# Altium schematic symbol library kmilo17pet-NSC_Interface.SchLib: 1433 symbols (part 11 of 51)
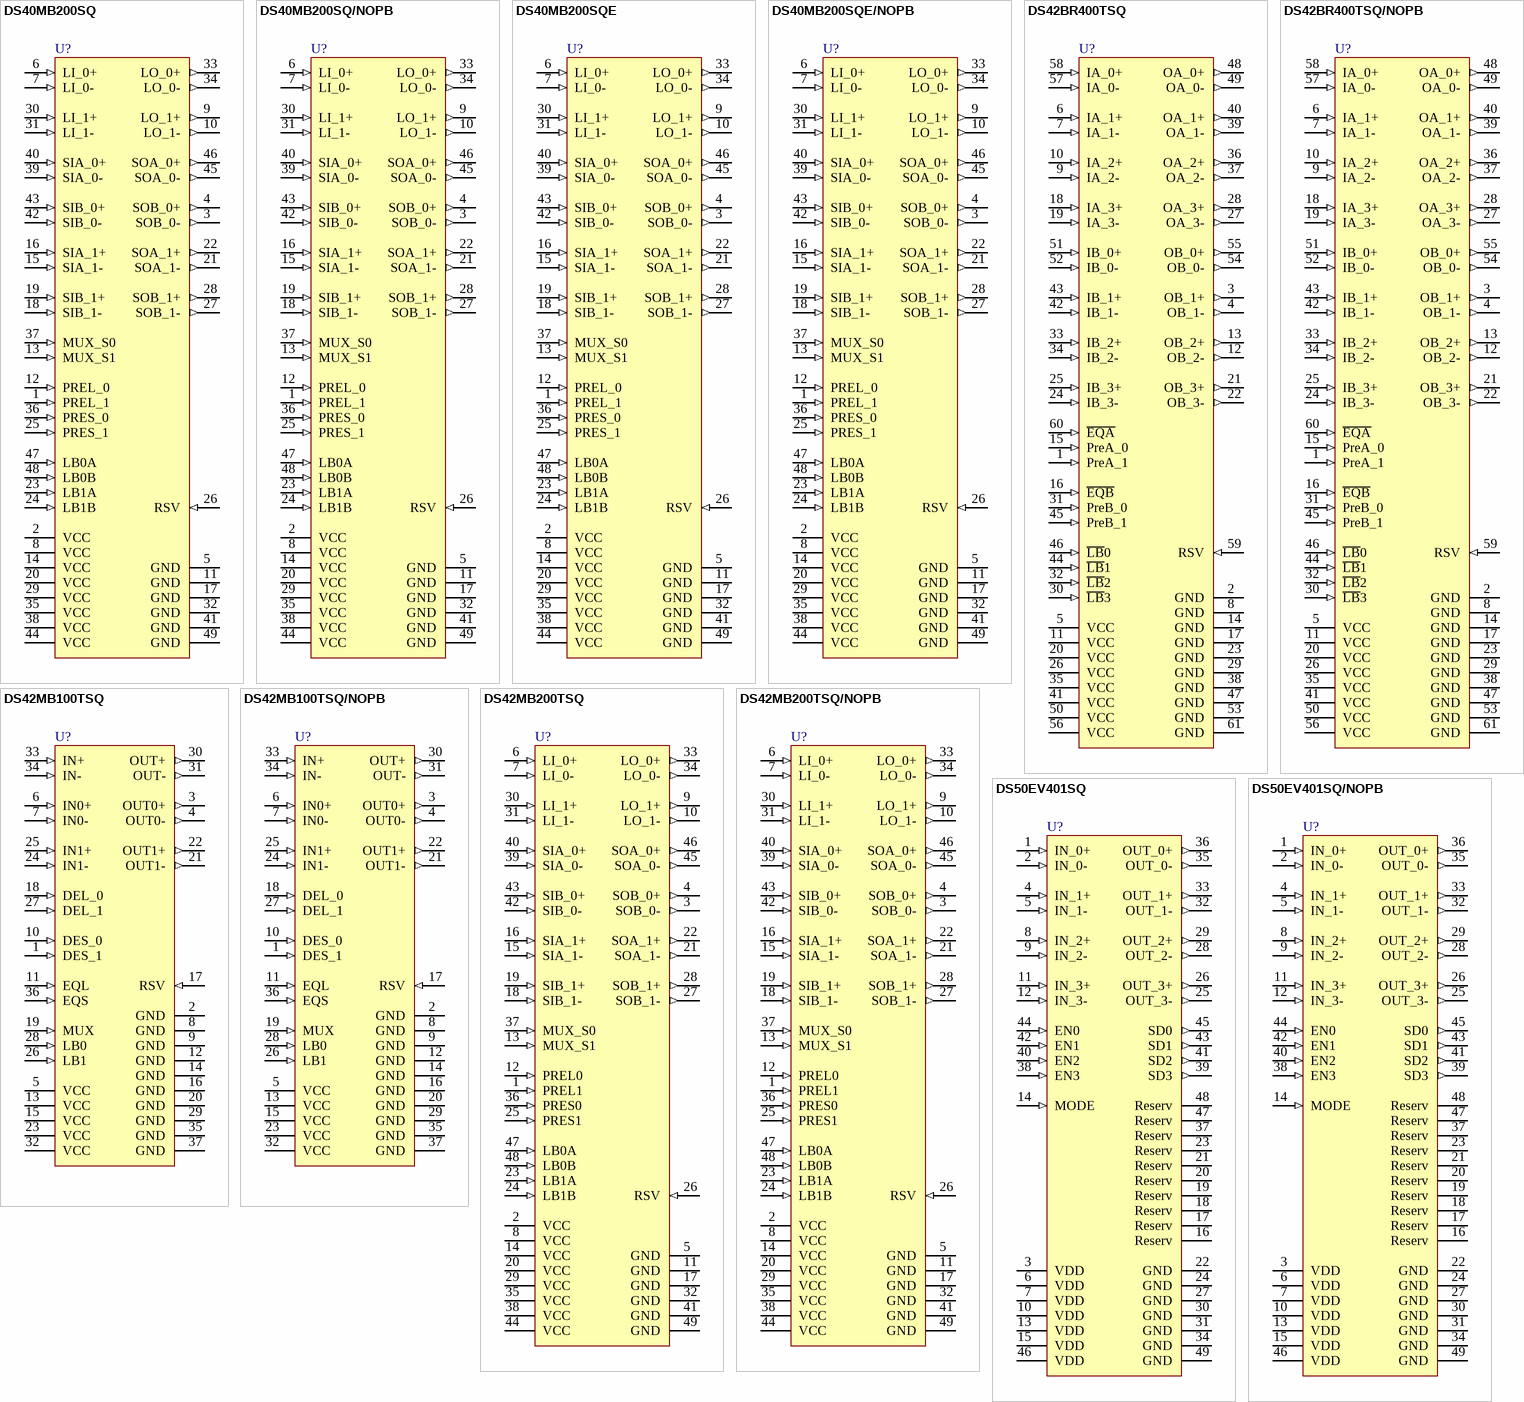
[diagram p134: symbols DS40MB200SQ to DS50EV401SQ/NOPB]

## DS42MB100TSQ
designator U?
4.25 Gbps 2:1/1:2 CML Mux/Buffer with Transmit De-Emphasis and Receive Equalization, 36-pin LLP; PartNumber: DS42MB100TSQ; Manufacturer: National Semiconductor; PackageTopMarking: NS*UZXYTT*42MB100; PowerWise: N; CompType: Interface IC; High-Reliability: Y; DatasheetVersion: Mar-2009; PackageVersion: revA, Jun-2003; PackageReference: SQA36A; PackageDescription: LLP, Plastic, Quad, 6 x 6 x 0.8mm Body, 36 Lead, 0.5mm Pitch, No Pullback; RoHS: Y; PinCount: 36; ComponentLink1Description: Manufacturer URL; ComponentLink1URL: http://www.national.com/; ComponentLink2Description: DS42MB100 Datasheet; ComponentLink2URL: http://www.national.com/ds/DS/DS42MB100.pdf; ComponentLink3Description: DS42MB100 Web Page; ComponentLink3URL: http://www.national.com/pf/DS/DS42MB100.html; ComponentLink4Description: SQA36A Package Page; ComponentLink4URL: http://www.national.com/packaging/folders/sqa36a.html
footprint SQA36A (QFN, 36-Leads, Body 6x6mm, Pitch 0.5mm, Thermal Pad 4.7x4.7mm, NSC Recommended)
pins: 1 DES_1 (in), 2 GND (power), 3 OUT0+ (out), 4 OUT0- (out), 5 VCC (power), 6 IN0+ (in), 7 IN0- (in), 8 GND (power), 9 GND (power), 10 DES_0 (in), 11 EQL (in), 12 GND (power), 13 VCC (power), 14 GND (power), 15 VCC (power), 16 GND (power), 17 RSV (in), 18 DEL_0 (in), 19 MUX (in), 20 GND (power), 21 OUT1- (out), 22 OUT1+ (out), 23 VCC (power), 24 IN1- (in), 25 IN1+ (in), 26 LB1 (in), 27 DEL_1 (in), 28 LB0 (in), 29 GND (power), 30 OUT+ (out), 31 OUT- (out), 32 VCC (power), 33 IN+ (in), 34 IN- (in), 35 GND (power), 36 EQS (in), 37 GND (power)

## DS42MB100TSQ/NOPB
designator U?
4.25 Gbps 2:1/1:2 CML Mux/Buffer with Transmit Pre-Emphasis and Receive Equalization, 36-pin LLP, Pb-Free; PartNumber: DS42MB100TSQ/NOPB; Manufacturer: National Semiconductor; PackageTopMarking: NS*UZXYTTE#*42MB100; PowerWise: N; CompType: Interface IC; High-Reliability: Y; DatasheetVersion: Mar-2009; PackageVersion: revA, Jun-2003; PackageReference: SQA36A; PackageDescription: LLP, Plastic, Quad, 6 x 6 x 0.8mm Body, 36 Lead, 0.5mm Pitch, No Pullback; RoHS: Y; PinCount: 36; ComponentLink1Description: Manufacturer URL; ComponentLink1URL: http://www.national.com/; ComponentLink2Description: DS42MB100 Datasheet; ComponentLink2URL: http://www.national.com/ds/DS/DS42MB100.pdf; ComponentLink3Description: DS42MB100 Web Page; ComponentLink3URL: http://www.national.com/pf/DS/DS42MB100.html; ComponentLink4Description: SQA36A Package Page; ComponentLink4URL: http://www.national.com/packaging/folders/sqa36a.html
footprint SQA36A (QFN, 36-Leads, Body 6x6mm, Pitch 0.5mm, Thermal Pad 4.7x4.7mm, NSC Recommended)
pins: 1 DES_1 (in), 2 GND (power), 3 OUT0+ (out), 4 OUT0- (out), 5 VCC (power), 6 IN0+ (in), 7 IN0- (in), 8 GND (power), 9 GND (power), 10 DES_0 (in), 11 EQL (in), 12 GND (power), 13 VCC (power), 14 GND (power), 15 VCC (power), 16 GND (power), 17 RSV (in), 18 DEL_0 (in), 19 MUX (in), 20 GND (power), 21 OUT1- (out), 22 OUT1+ (out), 23 VCC (power), 24 IN1- (in), 25 IN1+ (in), 26 LB1 (in), 27 DEL_1 (in), 28 LB0 (in), 29 GND (power), 30 OUT+ (out), 31 OUT- (out), 32 VCC (power), 33 IN+ (in), 34 IN- (in), 35 GND (power), 36 EQS (in), 37 GND (power)

## DS42MB200TSQ
designator U?
Dual 4.25 Gbps 2:1/1:2 CML Mux/Buffer with Transmit Pre-Emphasis and Receive Equalization, 48-pin LLP; PartNumber: DS42MB200TSQ; Manufacturer: National Semiconductor; PackageTopMarking: NS*UZXYTT*42MB200; PowerWise: N; CompType: Interface IC; High-Reliability: Y; DatasheetVersion: Mar-2009; PackageVersion: revA, Jul-2004; PackageReference: SQA48D; PackageDescription: LLP, Quad, 7 x 7 x 0.8mm, 48 Lead, 0.5mm Pitch, 4.1 x 4.1 Exposed Pad; RoHS: Y; PinCount: 48; ComponentLink1Description: Manufacturer URL; ComponentLink1URL: http://www.national.com/; ComponentLink2Description: DS42MB200 Datasheet; ComponentLink2URL: http://www.national.com/ds/DS/DS42MB200.pdf; ComponentLink3Description: DS42MB200 Web Page; ComponentLink3URL: http://www.national.com/pf/DS/DS42MB200.html; ComponentLink4Description: SQA48D Package Page; ComponentLink4URL: http://www.national.com/packaging/folders/sqa48d.html
footprint SQA48D (QFN, 48-Leads, Body 7x7mm, Pitch 0.5mm, Thermal Pad 4.2x4.2mm, NSC Recommended)
pins: 1 PREL1 (in), 2 VCC (power), 3 SOB_0- (out), 4 SOB_0+ (out), 5 GND (power), 6 LI_0+ (in), 7 LI_0- (in), 8 VCC (power), 9 LO_1+ (out), 10 LO_1- (out), 11 GND (power), 12 PREL0 (in), 13 MUX_S1 (in), 14 VCC (power), 15 SIA_1- (in), 16 SIA_1+ (in), 17 GND (power), 18 SIB_1- (in), 19 SIB_1+ (in), 20 VCC (power), 21 SOA_1- (out), 22 SOA_1+ (out), 23 LB1A (in), 24 LB1B (in), 25 PRES1 (in), 26 RSV (in), 27 SOB_1- (out), 28 SOB_1+ (out), 29 VCC (power), 30 LI_1+ (in), 31 LI_1- (in), 32 GND (power), 33 LO_0+ (out), 34 LO_0- (out), 35 VCC (power), 36 PRES0 (in), 37 MUX_S0 (in), 38 VCC (power), 39 SIA_0- (in), 40 SIA_0+ (in), 41 GND (power), 42 SIB_0- (in), 43 SIB_0+ (in), 44 VCC (power), 45 SOA_0- (out), 46 SOA_0+ (out), 47 LB0A (in), 48 LB0B (in), 49 GND (power)

## DS42MB200TSQ/NOPB
designator U?
Dual 4.25 Gbps 2:1/1:2 CML Mux/Buffer with Transmit Pre-Emphasis and Receive Equalization, 48-pin LLP, Pb-Free; PartNumber: DS42MB200TSQ/NOPB; Manufacturer: National Semiconductor; PackageTopMarking: NS*UZXYTTE#*42MB200; PowerWise: N; CompType: Interface IC; High-Reliability: Y; DatasheetVersion: Mar-2009; PackageVersion: revA, Jul-2004; PackageReference: SQA48D; PackageDescription: LLP, Quad, 7 x 7 x 0.8mm, 48 Lead, 0.5mm Pitch, 4.1 x 4.1 Exposed Pad; RoHS: Y; PinCount: 48; ComponentLink1Description: Manufacturer URL; ComponentLink1URL: http://www.national.com/; ComponentLink2Description: DS42MB200 Datasheet; ComponentLink2URL: http://www.national.com/ds/DS/DS42MB200.pdf; ComponentLink3Description: DS42MB200 Web Page; ComponentLink3URL: http://www.national.com/pf/DS/DS42MB200.html; ComponentLink4Description: SQA48D Package Page; ComponentLink4URL: http://www.national.com/packaging/folders/sqa48d.html
footprint SQA48D (QFN, 48-Leads, Body 7x7mm, Pitch 0.5mm, Thermal Pad 4.2x4.2mm, NSC Recommended)
pins: 1 PREL1 (in), 2 VCC (power), 3 SOB_0- (out), 4 SOB_0+ (out), 5 GND (power), 6 LI_0+ (in), 7 LI_0- (in), 8 VCC (power), 9 LO_1+ (out), 10 LO_1- (out), 11 GND (power), 12 PREL0 (in), 13 MUX_S1 (in), 14 VCC (power), 15 SIA_1- (in), 16 SIA_1+ (in), 17 GND (power), 18 SIB_1- (in), 19 SIB_1+ (in), 20 VCC (power), 21 SOA_1- (out), 22 SOA_1+ (out), 23 LB1A (in), 24 LB1B (in), 25 PRES1 (in), 26 RSV (in), 27 SOB_1- (out), 28 SOB_1+ (out), 29 VCC (power), 30 LI_1+ (in), 31 LI_1- (in), 32 GND (power), 33 LO_0+ (out), 34 LO_0- (out), 35 VCC (power), 36 PRES0 (in), 37 MUX_S0 (in), 38 VCC (power), 39 SIA_0- (in), 40 SIA_0+ (in), 41 GND (power), 42 SIB_0- (in), 43 SIB_0+ (in), 44 VCC (power), 45 SOA_0- (out), 46 SOA_0+ (out), 47 LB0A (in), 48 LB0B (in), 49 GND (power)

## DS50EV401SQ
designator U?
2.5 Gbps / 5.0 Gbps / 8.0 Gbps Quad PCI Express Cable and Backplane Equalizer, 48-pin LLP; PartNumber: DS50EV401SQ; Manufacturer: National Semiconductor; PackageTopMarking: NS*UZXYTT*DS50EV401; PowerWise: N; CompType: Interface IC; High-Reliability: Y; DatasheetVersion: Jul-2008; PackageVersion: revB, May-2009; PackageReference: SQA48A; PackageDescription: LLP, Plastic, Quad, 7 x 7 x 0.8mm Body, 48 Lead, 0.5mm Pitch, No Pullback; RoHS: Y; PinCount: 48; Code_JEDEC: MO-220-WKKD-2; ComponentLink1Description: Manufacturer URL; ComponentLink1URL: http://www.national.com/; ComponentLink2Description: DS50EV401 Datasheet; ComponentLink2URL: http://www.national.com/ds/DS/DS50EV401.pdf; ComponentLink3Description: DS50EV401 Web Page; ComponentLink3URL: http://www.national.com/pf/DS/DS50EV401.html; ComponentLink4Description: SQA48A Package Page; ComponentLink4URL: http://www.national.com/packaging/folders/sqa48a.html
footprint SQA48A (QFN, 48-Leads, Body 7x7mm, Pitch 0.5mm, Thermal Pad 5.2x5.2mm, NSC Recommended)
pins: 1 IN_0+ (in), 2 IN_0- (in), 3 VDD (power), 4 IN_1+ (in), 5 IN_1- (in), 6 VDD (power), 7 VDD (power), 8 IN_2+ (in), 9 IN_2- (in), 10 VDD (power), 11 IN_3+ (in), 12 IN_3- (in), 13 VDD (power), 14 MODE (in), 15 VDD (power), 16 Reserv, 17 Reserv, 18 Reserv, 19 Reserv, 20 Reserv, 21 Reserv, 22 GND (power), 23 Reserv, 24 GND (power), 25 OUT_3- (out), 26 OUT_3+ (out), 27 GND (power), 28 OUT_2- (out), 29 OUT_2+ (out), 30 GND (power), 31 GND (power), 32 OUT_1- (out), 33 OUT_1+ (out), 34 GND (power), 35 OUT_0- (out), 36 OUT_0+ (out), 37 Reserv, 38 EN3 (in), 39 SD3 (out), 40 EN2 (in), 41 SD2 (out), 42 EN1 (in), 43 SD1 (out), 44 EN0 (in), 45 SD0 (out), 46 VDD (power), 47 Reserv, 48 Reserv, 49 GND (power)

## DS50EV401SQ/NOPB
designator U?
2.5 Gbps / 5.0 Gbps or 8.0 Gbps Quad PCI Express Cable and Backplane Equalizer, 48-pin LLP, Pb-Free; PartNumber: DS50EV401SQ/NOPB; Manufacturer: National Semiconductor; PackageTopMarking: NS*UZXYTTE#*DS50EV401; PowerWise: N; CompType: Interface IC; High-Reliability: Y; DatasheetVersion: Jul-2008; PackageVersion: revB, May-2009; PackageReference: SQA48A; PackageDescription: LLP, Plastic, Quad, 7 x 7 x 0.8mm Body, 48 Lead, 0.5mm Pitch, No Pullback; RoHS: Y; PinCount: 48; Code_JEDEC: MO-220-WKKD-2; ComponentLink1Description: Manufacturer URL; ComponentLink1URL: http://www.national.com/; ComponentLink2Description: DS50EV401 Datasheet; ComponentLink2URL: http://www.national.com/ds/DS/DS50EV401.pdf; ComponentLink3Description: DS50EV401 Web Page; ComponentLink3URL: http://www.national.com/pf/DS/DS50EV401.html; ComponentLink4Description: SQA48A Package Page; ComponentLink4URL: http://www.national.com/packaging/folders/sqa48a.html
footprint SQA48A (QFN, 48-Leads, Body 7x7mm, Pitch 0.5mm, Thermal Pad 5.2x5.2mm, NSC Recommended)
pins: 1 IN_0+ (in), 2 IN_0- (in), 3 VDD (power), 4 IN_1+ (in), 5 IN_1- (in), 6 VDD (power), 7 VDD (power), 8 IN_2+ (in), 9 IN_2- (in), 10 VDD (power), 11 IN_3+ (in), 12 IN_3- (in), 13 VDD (power), 14 MODE (in), 15 VDD (power), 16 Reserv, 17 Reserv, 18 Reserv, 19 Reserv, 20 Reserv, 21 Reserv, 22 GND (power), 23 Reserv, 24 GND (power), 25 OUT_3- (out), 26 OUT_3+ (out), 27 GND (power), 28 OUT_2- (out), 29 OUT_2+ (out), 30 GND (power), 31 GND (power), 32 OUT_1- (out), 33 OUT_1+ (out), 34 GND (power), 35 OUT_0- (out), 36 OUT_0+ (out), 37 Reserv, 38 EN3 (in), 39 SD3 (out), 40 EN2 (in), 41 SD2 (out), 42 EN1 (in), 43 SD1 (out), 44 EN0 (in), 45 SD0 (out), 46 VDD (power), 47 Reserv, 48 Reserv, 49 GND (power)

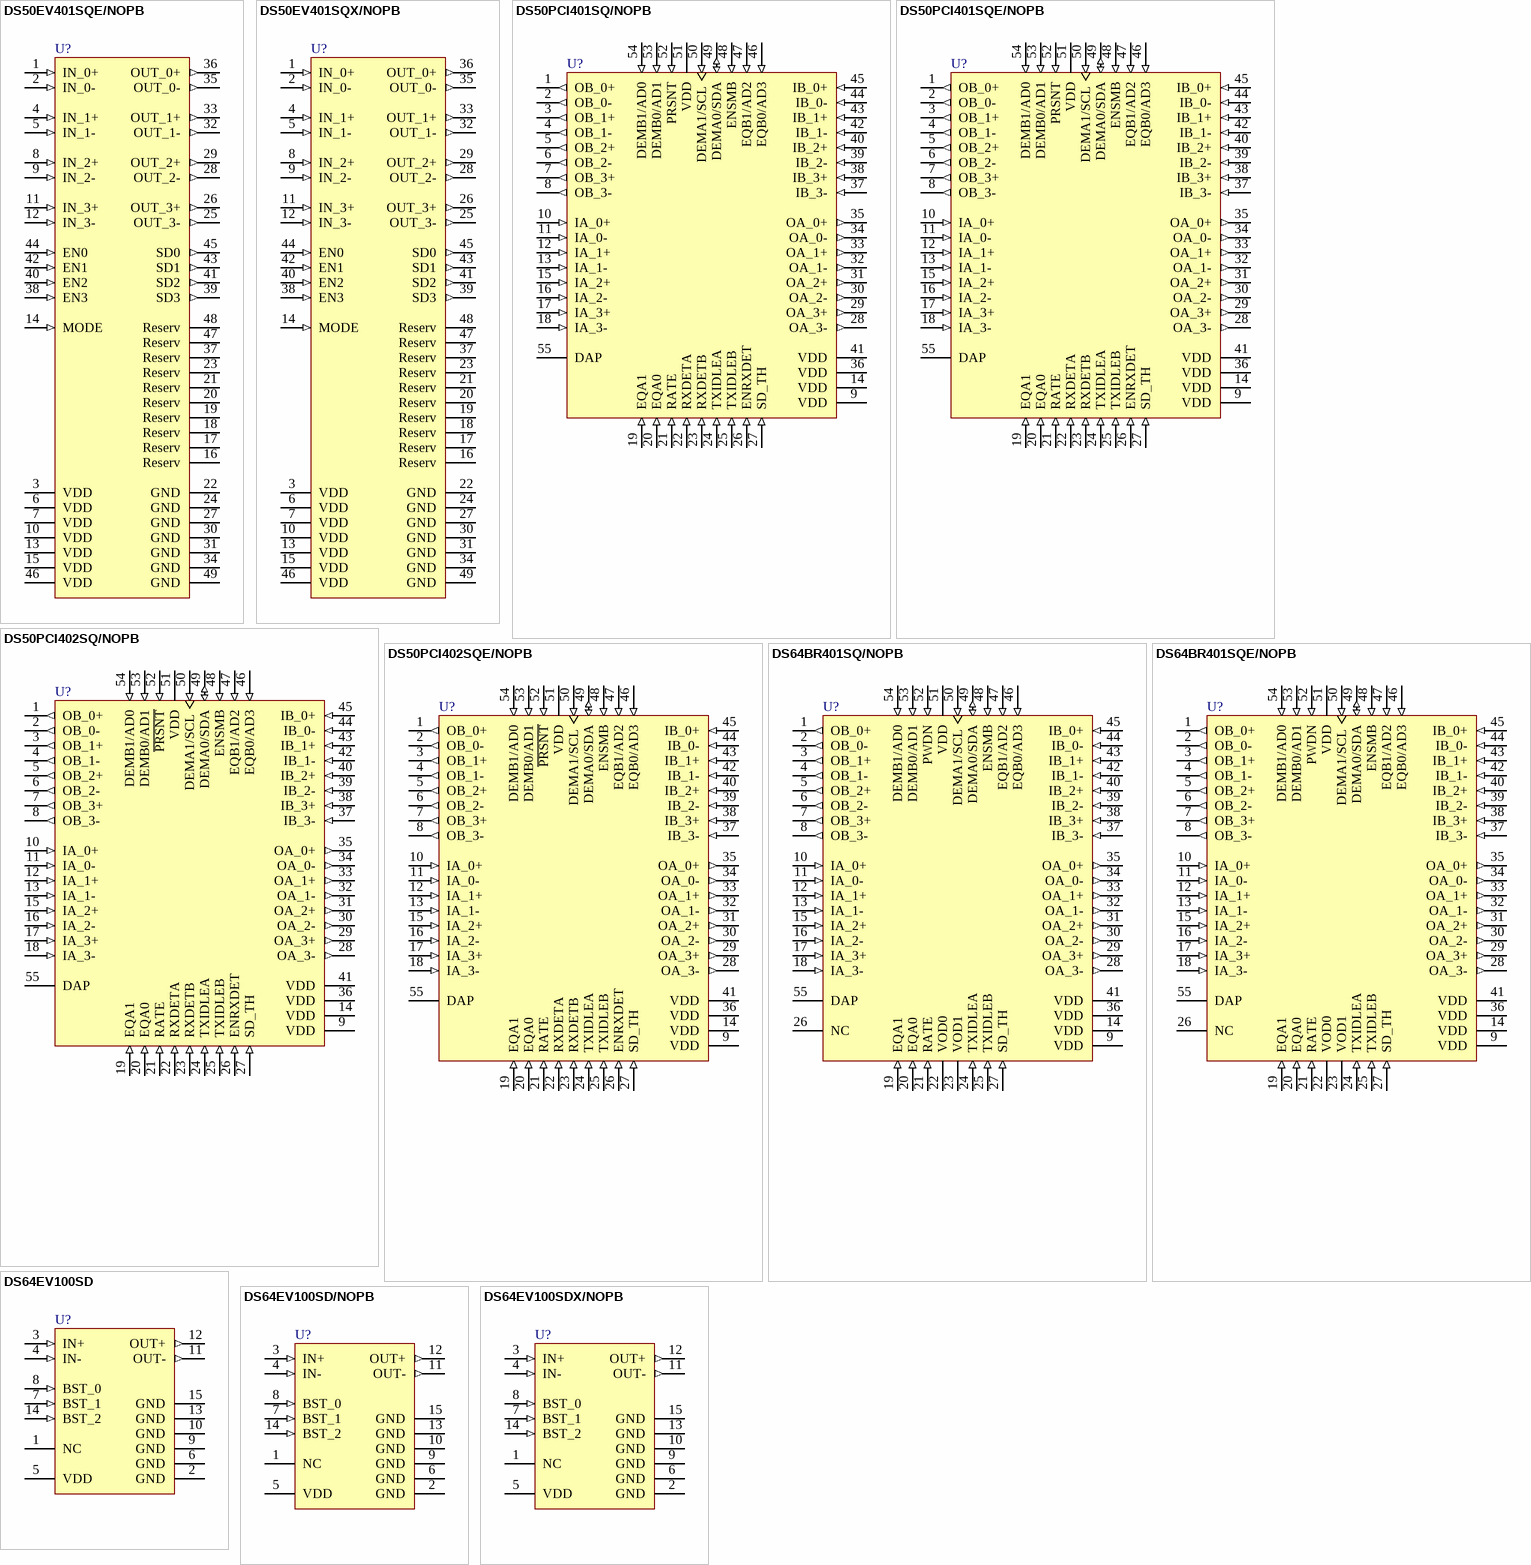
[diagram p27: symbols DS50EV401SQE/NOPB to DS64EV100SDX/NOPB]

## DS50EV401SQE/NOPB
designator U?
2.5 Gbps / 5.0 Gbps or 8.0 Gbps Quad PCI Express Cable and Backplane Equalizer, 48-pin LLP, Pb-Free; PartNumber: DS50EV401SQE/NOPB; Manufacturer: National Semiconductor; PackageTopMarking: NS*UZXYTTE#*DS50EV401; PowerWise: N; CompType: Interface IC; High-Reliability: Y; DatasheetVersion: Jul-2008; PackageVersion: revB, May-2009; PackageReference: SQA48A; PackageDescription: LLP, Plastic, Quad, 7 x 7 x 0.8mm Body, 48 Lead, 0.5mm Pitch, No Pullback; RoHS: Y; PinCount: 48; Code_JEDEC: MO-220-WKKD-2; ComponentLink1Description: Manufacturer URL; ComponentLink1URL: http://www.national.com/; ComponentLink2Description: DS50EV401 Datasheet; ComponentLink2URL: http://www.national.com/ds/DS/DS50EV401.pdf; ComponentLink3Description: DS50EV401 Web Page; ComponentLink3URL: http://www.national.com/pf/DS/DS50EV401.html; ComponentLink4Description: SQA48A Package Page; ComponentLink4URL: http://www.national.com/packaging/folders/sqa48a.html
footprint SQA48A (QFN, 48-Leads, Body 7x7mm, Pitch 0.5mm, Thermal Pad 5.2x5.2mm, NSC Recommended)
pins: 1 IN_0+ (in), 2 IN_0- (in), 3 VDD (power), 4 IN_1+ (in), 5 IN_1- (in), 6 VDD (power), 7 VDD (power), 8 IN_2+ (in), 9 IN_2- (in), 10 VDD (power), 11 IN_3+ (in), 12 IN_3- (in), 13 VDD (power), 14 MODE (in), 15 VDD (power), 16 Reserv, 17 Reserv, 18 Reserv, 19 Reserv, 20 Reserv, 21 Reserv, 22 GND (power), 23 Reserv, 24 GND (power), 25 OUT_3- (out), 26 OUT_3+ (out), 27 GND (power), 28 OUT_2- (out), 29 OUT_2+ (out), 30 GND (power), 31 GND (power), 32 OUT_1- (out), 33 OUT_1+ (out), 34 GND (power), 35 OUT_0- (out), 36 OUT_0+ (out), 37 Reserv, 38 EN3 (in), 39 SD3 (out), 40 EN2 (in), 41 SD2 (out), 42 EN1 (in), 43 SD1 (out), 44 EN0 (in), 45 SD0 (out), 46 VDD (power), 47 Reserv, 48 Reserv, 49 GND (power)

## DS50EV401SQX/NOPB
designator U?
2.5 Gbps / 5.0 Gbps or 8.0 Gbps Quad PCI Express Cable and Backplane Equalizer, 48-pin LLP, Pb-Free; PartNumber: DS50EV401SQX/NOPB; Manufacturer: National Semiconductor; PackageTopMarking: NS*UZXYTTE#*DS50EV401; PowerWise: N; CompType: Interface IC; High-Reliability: Y; DatasheetVersion: Jul-2008; PackageVersion: revB, May-2009; PackageReference: SQA48A; PackageDescription: LLP, Plastic, Quad, 7 x 7 x 0.8mm Body, 48 Lead, 0.5mm Pitch, No Pullback; RoHS: Y; PinCount: 48; Code_JEDEC: MO-220-WKKD-2; ComponentLink1Description: Manufacturer URL; ComponentLink1URL: http://www.national.com/; ComponentLink2Description: DS50EV401 Datasheet; ComponentLink2URL: http://www.national.com/ds/DS/DS50EV401.pdf; ComponentLink3Description: DS50EV401 Web Page; ComponentLink3URL: http://www.national.com/pf/DS/DS50EV401.html; ComponentLink4Description: SQA48A Package Page; ComponentLink4URL: http://www.national.com/packaging/folders/sqa48a.html
footprint SQA48A (QFN, 48-Leads, Body 7x7mm, Pitch 0.5mm, Thermal Pad 5.2x5.2mm, NSC Recommended)
pins: 1 IN_0+ (in), 2 IN_0- (in), 3 VDD (power), 4 IN_1+ (in), 5 IN_1- (in), 6 VDD (power), 7 VDD (power), 8 IN_2+ (in), 9 IN_2- (in), 10 VDD (power), 11 IN_3+ (in), 12 IN_3- (in), 13 VDD (power), 14 MODE (in), 15 VDD (power), 16 Reserv, 17 Reserv, 18 Reserv, 19 Reserv, 20 Reserv, 21 Reserv, 22 GND (power), 23 Reserv, 24 GND (power), 25 OUT_3- (out), 26 OUT_3+ (out), 27 GND (power), 28 OUT_2- (out), 29 OUT_2+ (out), 30 GND (power), 31 GND (power), 32 OUT_1- (out), 33 OUT_1+ (out), 34 GND (power), 35 OUT_0- (out), 36 OUT_0+ (out), 37 Reserv, 38 EN3 (in), 39 SD3 (out), 40 EN2 (in), 41 SD2 (out), 42 EN1 (in), 43 SD1 (out), 44 EN0 (in), 45 SD0 (out), 46 VDD (power), 47 Reserv, 48 Reserv, 49 GND (power)

## DS50PCI401SQ/NOPB
designator U?
2.5 Gbps / 5.0 Gbps 4 Lane PCI Express Transceiver with Equalization and De-Emphasis, 54-pin LLP, Pb-Free; PartNumber: DS50PCI401SQ/NOPB; Manufacturer: National Semiconductor; PackageTopMarking: NS*UZXYTTE#*DS50PCI401SQ; PowerWise: N; CompType: Interface IC; High-Reliability: Y; DatasheetVersion: Feb-2010; PackageVersion: revB, Jun-2009; PackageReference: SQA54A; PackageDescription: LLP, Plastic, Quad, 10 x 10 x 0.8 mm Body, 54 Lead, 0.5 mm Pitch (SQA54A); RoHS: Y; PinCount: 54; ComponentLink1Description: Manufacturer URL; ComponentLink1URL: http://www.national.com/; ComponentLink2Description: DS50PCI401 Datasheet; ComponentLink2URL: http://www.national.com/ds/DS/DS50PCI401.pdf; ComponentLink3Description: DS50PCI401 Web Page; ComponentLink3URL: http://www.national.com/pf/DS/DS50PCI401.html; ComponentLink4Description: SQA54A Package Page; ComponentLink4URL: http://www.national.com/packaging/folders/sqa54a.html
footprint SQA54A (PQFN, 54-Leads, (18x9 pads), Body 10x10mm, Pitch 0.5mm, NSC Recommended)
pins: 1 OB_0+ (out), 2 OB_0- (out), 3 OB_1+ (out), 4 OB_1- (out), 5 OB_2+ (out), 6 OB_2- (out), 7 OB_3+ (out), 8 OB_3- (out), 9 VDD (power), 10 IA_0+ (in), 11 IA_0- (in), 12 IA_1+ (in), 13 IA_1- (in), 14 VDD (power), 15 IA_2+ (in), 16 IA_2- (in), 17 IA_3+ (in), 18 IA_3- (in), 19 EQA1 (in), 20 EQA0 (in), 21 RATE (in), 22 RXDETA (in), 23 RXDETB (in), 24 TXIDLEA (in), 25 TXIDLEB (in), 26 ENRXDET (in), 27 SD_TH (in), 28 OA_3- (out), 29 OA_3+ (out), 30 OA_2- (out), 31 OA_2+ (out), 32 OA_1- (out), 33 OA_1+ (out), 34 OA_0- (out), 35 OA_0+ (out), 36 VDD (power), 37 IB_3- (in), 38 IB_3+ (in), 39 IB_2- (in), 40 IB_2+ (in), 41 VDD (power), 42 IB_1- (in), 43 IB_1+ (in), 44 IB_0- (in), 45 IB_0+ (in), 46 EQB0/AD3 (in), 47 EQB1/AD2 (in), 48 ENSMB (in), 49 DEMA0/SDA (io), 50 DEMA1/SCL (in), 51 VDD (power), 52 PRSNT (in), 53 DEMB0/AD1 (in), 54 DEMB1/AD0 (in), 55 DAP (power)

## DS50PCI401SQE/NOPB
designator U?
2.5 Gbps / 5.0 Gbps 4 Lane PCI Express Transceiver with Equalization and De-Emphasis, 54-pin LLP, Pb-Free; PartNumber: DS50PCI401SQE/NOPB; Manufacturer: National Semiconductor; PackageTopMarking: NS*UZXYTTE#*DS50PCI401SQ; PowerWise: N; CompType: Interface IC; High-Reliability: Y; DatasheetVersion: Feb-2010; PackageVersion: revB, Jun-2009; PackageReference: SQA54A; PackageDescription: LLP, Plastic, Quad, 10 x 10 x 0.8 mm Body, 54 Lead, 0.5 mm Pitch (SQA54A); RoHS: Y; PinCount: 54; ComponentLink1Description: Manufacturer URL; ComponentLink1URL: http://www.national.com/; ComponentLink2Description: DS50PCI401 Datasheet; ComponentLink2URL: http://www.national.com/ds/DS/DS50PCI401.pdf; ComponentLink3Description: DS50PCI401 Web Page; ComponentLink3URL: http://www.national.com/pf/DS/DS50PCI401.html; ComponentLink4Description: SQA54A Package Page; ComponentLink4URL: http://www.national.com/packaging/folders/sqa54a.html
footprint SQA54A (PQFN, 54-Leads, (18x9 pads), Body 10x10mm, Pitch 0.5mm, NSC Recommended)
pins: 1 OB_0+ (out), 2 OB_0- (out), 3 OB_1+ (out), 4 OB_1- (out), 5 OB_2+ (out), 6 OB_2- (out), 7 OB_3+ (out), 8 OB_3- (out), 9 VDD (power), 10 IA_0+ (in), 11 IA_0- (in), 12 IA_1+ (in), 13 IA_1- (in), 14 VDD (power), 15 IA_2+ (in), 16 IA_2- (in), 17 IA_3+ (in), 18 IA_3- (in), 19 EQA1 (in), 20 EQA0 (in), 21 RATE (in), 22 RXDETA (in), 23 RXDETB (in), 24 TXIDLEA (in), 25 TXIDLEB (in), 26 ENRXDET (in), 27 SD_TH (in), 28 OA_3- (out), 29 OA_3+ (out), 30 OA_2- (out), 31 OA_2+ (out), 32 OA_1- (out), 33 OA_1+ (out), 34 OA_0- (out), 35 OA_0+ (out), 36 VDD (power), 37 IB_3- (in), 38 IB_3+ (in), 39 IB_2- (in), 40 IB_2+ (in), 41 VDD (power), 42 IB_1- (in), 43 IB_1+ (in), 44 IB_0- (in), 45 IB_0+ (in), 46 EQB0/AD3 (in), 47 EQB1/AD2 (in), 48 ENSMB (in), 49 DEMA0/SDA (io), 50 DEMA1/SCL (in), 51 VDD (power), 52 PRSNT (in), 53 DEMB0/AD1 (in), 54 DEMB1/AD0 (in), 55 DAP (power)

## DS50PCI402SQ/NOPB
designator U?
2.5 Gbps / 5.0 Gbps 4 Lane PCI Express Repeater with Equalization and De-Emphasis, 54 pin LLP; PartNumber: DS50PCI402SQ/NOPB; Manufacturer: National Semiconductor; PackageTopMarking: NS*UZXYTTE#*DS50PCI402SQ; PowerWise: Y; CompType: Interface IC; DatasheetVersion: Jul-2010; PackageVersion: revB, Jun-2009; PackageReference: SQA54A; PackageDescription: LLP, Plastic, Quad, 10 x 10 x 0.8 mm Body, 54 Lead, 0.5 mm Pitch (SQA54A); RoHS: Y; PinCount: 54; High-Reliability: Y; ComponentLink1Description: Manufacturer URL; ComponentLink1URL: http://www.national.com/; ComponentLink2Description: DS50PCI402 Datasheet; ComponentLink2URL: http://www.national.com/ds/DS/DS50PCI402.pdf; ComponentLink3Description: DS50PCI402 Web Page; ComponentLink3URL: http://www.national.com/pf/DS/DS50PCI402.html; ComponentLink4Description: SQA54A Package Page; ComponentLink4URL: http://www.national.com/packaging/folders/sqa54a.html
footprint SQA54A (PQFN, 54-Leads, (18x9 pads), Body 10x10mm, Pitch 0.5mm, NSC Recommended)
pins: 1 OB_0+ (out), 2 OB_0- (out), 3 OB_1+ (out), 4 OB_1- (out), 5 OB_2+ (out), 6 OB_2- (out), 7 OB_3+ (out), 8 OB_3- (out), 9 VDD (power), 10 IA_0+ (in), 11 IA_0- (in), 12 IA_1+ (in), 13 IA_1- (in), 14 VDD (power), 15 IA_2+ (in), 16 IA_2- (in), 17 IA_3+ (in), 18 IA_3- (in), 19 EQA1 (in), 20 EQA0 (in), 21 RATE (in), 22 RXDETA (in), 23 RXDETB (in), 24 TXIDLEA (in), 25 TXIDLEB (in), 26 ENRXDET (in), 27 SD_TH (in), 28 OA_3- (out), 29 OA_3+ (out), 30 OA_2- (out), 31 OA_2+ (out), 32 OA_1- (out), 33 OA_1+ (out), 34 OA_0- (out), 35 OA_0+ (out), 36 VDD (power), 37 IB_3- (in), 38 IB_3+ (in), 39 IB_2- (in), 40 IB_2+ (in), 41 VDD (power), 42 IB_1- (in), 43 IB_1+ (in), 44 IB_0- (in), 45 IB_0+ (in), 46 EQB0/AD3 (in), 47 EQB1/AD2 (in), 48 ENSMB (in), 49 DEMA0/SDA (io), 50 DEMA1/SCL (in), 51 VDD (power), 52 ~{PRSNT} (in), 53 DEMB0/AD1 (in), 54 DEMB1/AD0 (in), 55 DAP (power)

## DS50PCI402SQE/NOPB
designator U?
2.5 Gbps / 5.0 Gbps 4 Lane PCI Express Repeater with Equalization and De-Emphasis, 54 pin LLP; PartNumber: DS50PCI402SQE/NOPB; Manufacturer: National Semiconductor; PackageTopMarking: NS*UZXYTTE#*DS50PCI402SQ; PowerWise: Y; CompType: Interface IC; DatasheetVersion: Jul-2010; PackageVersion: revB, Jun-2009; PackageReference: SQA54A; PackageDescription: LLP, Plastic, Quad, 10 x 10 x 0.8 mm Body, 54 Lead, 0.5 mm Pitch (SQA54A); RoHS: Y; PinCount: 54; High-Reliability: Y; ComponentLink1Description: Manufacturer URL; ComponentLink1URL: http://www.national.com/; ComponentLink2Description: DS50PCI402 Datasheet; ComponentLink2URL: http://www.national.com/ds/DS/DS50PCI402.pdf; ComponentLink3Description: DS50PCI402 Web Page; ComponentLink3URL: http://www.national.com/pf/DS/DS50PCI402.html; ComponentLink4Description: SQA54A Package Page; ComponentLink4URL: http://www.national.com/packaging/folders/sqa54a.html
footprint SQA54A (PQFN, 54-Leads, (18x9 pads), Body 10x10mm, Pitch 0.5mm, NSC Recommended)
pins: 1 OB_0+ (out), 2 OB_0- (out), 3 OB_1+ (out), 4 OB_1- (out), 5 OB_2+ (out), 6 OB_2- (out), 7 OB_3+ (out), 8 OB_3- (out), 9 VDD (power), 10 IA_0+ (in), 11 IA_0- (in), 12 IA_1+ (in), 13 IA_1- (in), 14 VDD (power), 15 IA_2+ (in), 16 IA_2- (in), 17 IA_3+ (in), 18 IA_3- (in), 19 EQA1 (in), 20 EQA0 (in), 21 RATE (in), 22 RXDETA (in), 23 RXDETB (in), 24 TXIDLEA (in), 25 TXIDLEB (in), 26 ENRXDET (in), 27 SD_TH (in), 28 OA_3- (out), 29 OA_3+ (out), 30 OA_2- (out), 31 OA_2+ (out), 32 OA_1- (out), 33 OA_1+ (out), 34 OA_0- (out), 35 OA_0+ (out), 36 VDD (power), 37 IB_3- (in), 38 IB_3+ (in), 39 IB_2- (in), 40 IB_2+ (in), 41 VDD (power), 42 IB_1- (in), 43 IB_1+ (in), 44 IB_0- (in), 45 IB_0+ (in), 46 EQB0/AD3 (in), 47 EQB1/AD2 (in), 48 ENSMB (in), 49 DEMA0/SDA (io), 50 DEMA1/SCL (in), 51 VDD (power), 52 ~{PRSNT} (in), 53 DEMB0/AD1 (in), 54 DEMB1/AD0 (in), 55 DAP (power)

## DS64BR401SQ/NOPB
designator U?
Quad Bi-Directional Transceiver with Equalization and De-Emphasis, 54-pin LLP, Pb-Free; PartNumber: DS64BR401SQ/NOPB; Manufacturer: National Semiconductor; PackageTopMarking: NS*UZXYTTE#*DS64BR401*SQ; PowerWise: N; CompType: Interface IC; High-Reliability: Y; DatasheetVersion: Oct-2009; PackageVersion: revB, Jun-2009; PackageReference: SQA54A; PackageDescription: LLP, Plastic, Quad, 10 x 10 x 0.8 mm Body, 54 Lead, 0.5 mm Pitch (SQA54A); RoHS: Y; PinCount: 54; ComponentLink1Description: Manufacturer URL; ComponentLink1URL: http://www.national.com/; ComponentLink2Description: DS64BR401 Datasheet; ComponentLink2URL: http://www.national.com/ds/DS/DS64BR401.pdf; ComponentLink3Description: DS64BR401 Web Page; ComponentLink3URL: http://www.national.com/pf/DS/DS64BR401.html; ComponentLink4Description: SQA54A Package Page; ComponentLink4URL: http://www.national.com/packaging/folders/sqa54a.html
footprint SQA54A (PQFN, 54-Leads, (18x9 pads), Body 10x10mm, Pitch 0.5mm, NSC Recommended)
pins: 1 OB_0+ (out), 2 OB_0- (out), 3 OB_1+ (out), 4 OB_1- (out), 5 OB_2+ (out), 6 OB_2- (out), 7 OB_3+ (out), 8 OB_3- (out), 9 VDD (power), 10 IA_0+ (in), 11 IA_0- (in), 12 IA_1+ (in), 13 IA_1- (in), 14 VDD (power), 15 IA_2+ (in), 16 IA_2- (in), 17 IA_3+ (in), 18 IA_3- (in), 19 EQA1 (in), 20 EQA0 (in), 21 RATE (in), 22 VOD0, 23 VOD1, 24 TXIDLEA (in), 25 TXIDLEB (in), 26 NC, 27 SD_TH (in), 28 OA_3- (out), 29 OA_3+ (out), 30 OA_2- (out), 31 OA_2+ (out), 32 OA_1- (out), 33 OA_1+ (out), 34 OA_0- (out), 35 OA_0+ (out), 36 VDD (power), 37 IB_3- (in), 38 IB_3+ (in), 39 IB_2- (in), 40 IB_2+ (in), 41 VDD (power), 42 IB_1- (in), 43 IB_1+ (in), 44 IB_0- (in), 45 IB_0+ (in), 46 EQB0/AD3 (in), 47 EQB1/AD2 (in), 48 ENSMB (in), 49 DEMA0/SDA (io), 50 DEMA1/SCL (in), 51 VDD (power), 52 PWDN (in), 53 DEMB0/AD1 (in), 54 DEMB1/AD0 (in), 55 DAP (power)

## DS64BR401SQE/NOPB
designator U?
Quad Bi-Directional Transceiver with Equalization and De-Emphasis, 54-pin LLP, Pb-Free; PartNumber: DS64BR401SQE/NOPB; Manufacturer: National Semiconductor; PackageTopMarking: NS*UZXYTTE#*DS64BR401*SQ; PowerWise: N; CompType: Interface IC; High-Reliability: Y; DatasheetVersion: Oct-2009; PackageVersion: revB, Jun-2009; PackageReference: SQA54A; PackageDescription: LLP, Plastic, Quad, 10 x 10 x 0.8 mm Body, 54 Lead, 0.5 mm Pitch (SQA54A); RoHS: Y; PinCount: 54; ComponentLink1Description: Manufacturer URL; ComponentLink1URL: http://www.national.com/; ComponentLink2Description: DS64BR401 Datasheet; ComponentLink2URL: http://www.national.com/ds/DS/DS64BR401.pdf; ComponentLink3Description: DS64BR401 Web Page; ComponentLink3URL: http://www.national.com/pf/DS/DS64BR401.html; ComponentLink4Description: SQA54A Package Page; ComponentLink4URL: http://www.national.com/packaging/folders/sqa54a.html
footprint SQA54A (PQFN, 54-Leads, (18x9 pads), Body 10x10mm, Pitch 0.5mm, NSC Recommended)
pins: 1 OB_0+ (out), 2 OB_0- (out), 3 OB_1+ (out), 4 OB_1- (out), 5 OB_2+ (out), 6 OB_2- (out), 7 OB_3+ (out), 8 OB_3- (out), 9 VDD (power), 10 IA_0+ (in), 11 IA_0- (in), 12 IA_1+ (in), 13 IA_1- (in), 14 VDD (power), 15 IA_2+ (in), 16 IA_2- (in), 17 IA_3+ (in), 18 IA_3- (in), 19 EQA1 (in), 20 EQA0 (in), 21 RATE (in), 22 VOD0, 23 VOD1, 24 TXIDLEA (in), 25 TXIDLEB (in), 26 NC, 27 SD_TH (in), 28 OA_3- (out), 29 OA_3+ (out), 30 OA_2- (out), 31 OA_2+ (out), 32 OA_1- (out), 33 OA_1+ (out), 34 OA_0- (out), 35 OA_0+ (out), 36 VDD (power), 37 IB_3- (in), 38 IB_3+ (in), 39 IB_2- (in), 40 IB_2+ (in), 41 VDD (power), 42 IB_1- (in), 43 IB_1+ (in), 44 IB_0- (in), 45 IB_0+ (in), 46 EQB0/AD3 (in), 47 EQB1/AD2 (in), 48 ENSMB (in), 49 DEMA0/SDA (io), 50 DEMA1/SCL (in), 51 VDD (power), 52 PWDN (in), 53 DEMB0/AD1 (in), 54 DEMB1/AD0 (in), 55 DAP (power)

## DS64EV100SD
designator U?
Programmable Single Equalizer, 14-pin LLP; PartNumber: DS64EV100SD; Manufacturer: National Semiconductor; PackageTopMarking: ZXYTT*D64E1SD; PowerWise: Y; CompType: Interface IC; DatasheetVersion: Apr-2008; PackageVersion: revA, Jun-2003; PackageReference: SDA14A; PackageDescription: LLP, Plastic, Dual, 4 x 3 x 0.8mm Body, 14 Lead, 0.5mm Pitch, No Pullback; RoHS: Y; PinCount: 14; High-Reliability: Y; ComponentLink1Description: Manufacturer URL; ComponentLink1URL: http://www.national.com/; ComponentLink2Description: DS64EV100 Datasheet; ComponentLink2URL: http://www.national.com/ds/DS/DS64EV100.pdf; ComponentLink3Description: DS64EV100 Web Page; ComponentLink3URL: http://www.national.com/pf/DS/DS64EV100.html; ComponentLink4Description: SDA14A Package Page; ComponentLink4URL: http://www.national.com/packaging/folders/sda14a.html
footprint SDA14A (SON, 14-Leads, Body 4x3mm, Pitch 0.5mm, NSC Recommended)
pins: 1 NC, 2 GND (power), 3 IN+ (in), 4 IN- (in), 5 VDD (power), 6 GND (power), 7 BST_1 (in), 8 BST_0 (in), 9 GND (power), 10 GND (power), 11 OUT- (out), 12 OUT+ (out), 13 GND (power), 14 BST_2 (in), 15 GND (power)

## DS64EV100SD/NOPB
designator U?
Programmable Single Equalizer, 14-pin LLP, Pb-Free; PartNumber: DS64EV100SD/NOPB; Manufacturer: National Semiconductor; PackageTopMarking: ZXYTTE#*D64E1SD; PowerWise: Y; CompType: Interface IC; DatasheetVersion: Apr-2008; PackageVersion: revA, Jun-2003; PackageReference: SDA14A; PackageDescription: LLP, Plastic, Dual, 4 x 3 x 0.8mm Body, 14 Lead, 0.5mm Pitch, No Pullback; RoHS: Y; PinCount: 14; High-Reliability: Y; ComponentLink1Description: Manufacturer URL; ComponentLink1URL: http://www.national.com/; ComponentLink2Description: DS64EV100 Datasheet; ComponentLink2URL: http://www.national.com/ds/DS/DS64EV100.pdf; ComponentLink3Description: DS64EV100 Web Page; ComponentLink3URL: http://www.national.com/pf/DS/DS64EV100.html; ComponentLink4Description: SDA14A Package Page; ComponentLink4URL: http://www.national.com/packaging/folders/sda14a.html
footprint SDA14A (SON, 14-Leads, Body 4x3mm, Pitch 0.5mm, NSC Recommended)
pins: 1 NC, 2 GND (power), 3 IN+ (in), 4 IN- (in), 5 VDD (power), 6 GND (power), 7 BST_1 (in), 8 BST_0 (in), 9 GND (power), 10 GND (power), 11 OUT- (out), 12 OUT+ (out), 13 GND (power), 14 BST_2 (in), 15 GND (power)

## DS64EV100SDX/NOPB
designator U?
Programmable Single Equalizer, 14-pin LLP, Pb-Free; PartNumber: DS64EV100SDX/NOPB; Manufacturer: National Semiconductor; PackageTopMarking: ZXYTTE#*D64E1SD; PowerWise: Y; CompType: Interface IC; DatasheetVersion: Apr-2008; PackageVersion: revA, Jun-2003; PackageReference: SDA14A; PackageDescription: LLP, Plastic, Dual, 4 x 3 x 0.8mm Body, 14 Lead, 0.5mm Pitch, No Pullback; RoHS: Y; PinCount: 14; High-Reliability: Y; ComponentLink1Description: Manufacturer URL; ComponentLink1URL: http://www.national.com/; ComponentLink2Description: DS64EV100 Datasheet; ComponentLink2URL: http://www.national.com/ds/DS/DS64EV100.pdf; ComponentLink3Description: DS64EV100 Web Page; ComponentLink3URL: http://www.national.com/pf/DS/DS64EV100.html; ComponentLink4Description: SDA14A Package Page; ComponentLink4URL: http://www.national.com/packaging/folders/sda14a.html
footprint SDA14A (SON, 14-Leads, Body 4x3mm, Pitch 0.5mm, NSC Recommended)
pins: 1 NC, 2 GND (power), 3 IN+ (in), 4 IN- (in), 5 VDD (power), 6 GND (power), 7 BST_1 (in), 8 BST_0 (in), 9 GND (power), 10 GND (power), 11 OUT- (out), 12 OUT+ (out), 13 GND (power), 14 BST_2 (in), 15 GND (power)

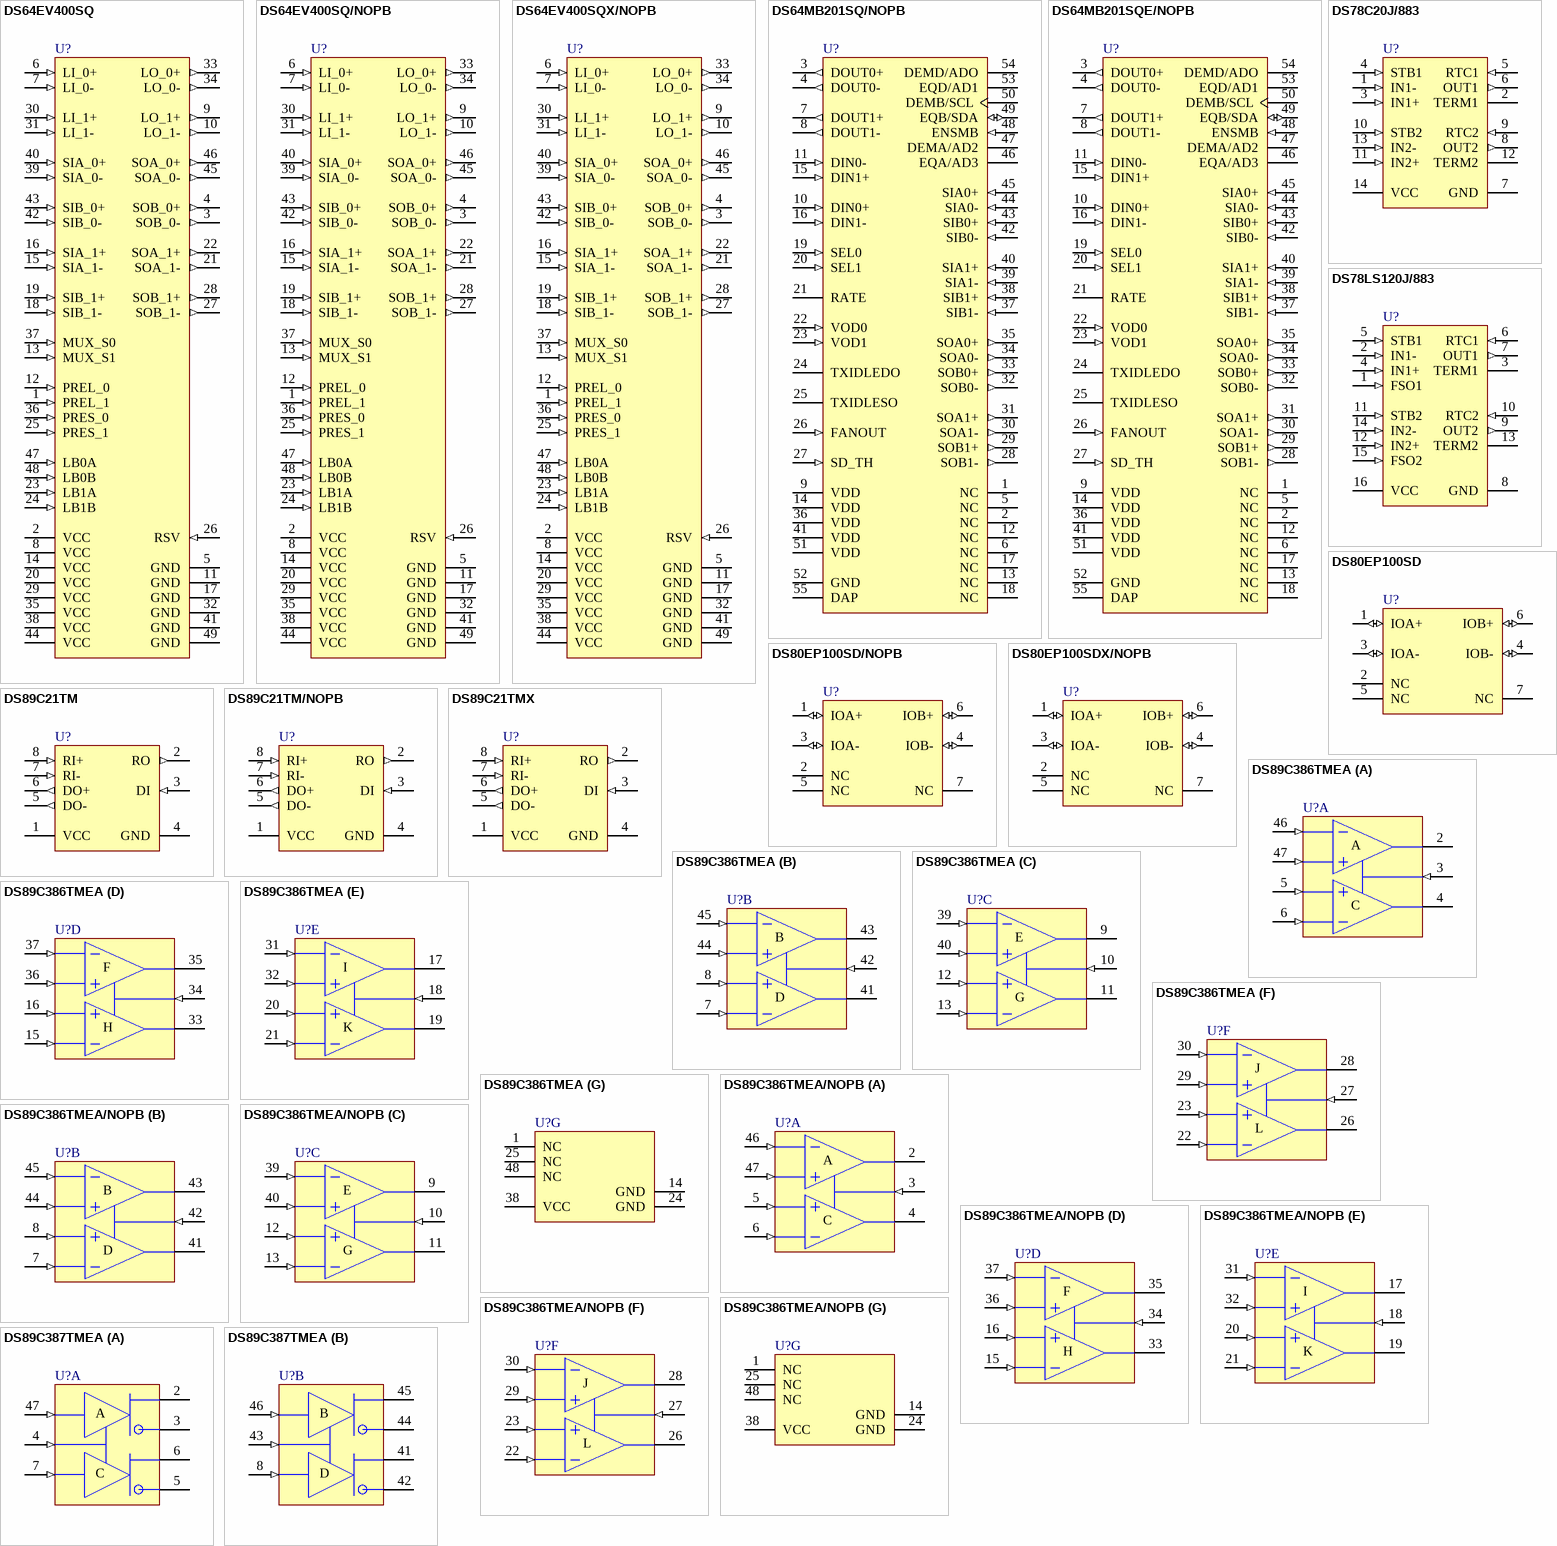
[diagram p28: symbols DS64EV400SQ to DS89C387TMEA]

## DS64EV400SQ
designator U?
Programmable Quad Equalizer, 48-pin LLP; PartNumber: DS64EV400SQ; Manufacturer: National Semiconductor; PackageTopMarking: NS*UZXYTT*DS64EV400; PowerWise: Y; CompType: Interface IC; DatasheetVersion: Apr-2008; PackageVersion: revA, Jul-2004; PackageReference: SQA48D; PackageDescription: LLP, Quad, 7 x 7 x 0.8mm, 48 Lead, 0.5mm Pitch, 4.1 x 4.1 Exposed Pad; RoHS: Y; PinCount: 48; High-Reliability: Y; ComponentLink1Description: Manufacturer URL; ComponentLink1URL: http://www.national.com/; ComponentLink2Description: DS64EV400 Datasheet; ComponentLink2URL: http://www.national.com/ds/DS/DS64EV400.pdf; ComponentLink3Description: DS64EV400 Web Page; ComponentLink3URL: http://www.national.com/pf/DS/DS64EV400.html; ComponentLink4Description: SQA48D Package Page; ComponentLink4URL: http://www.national.com/packaging/folders/sqa48d.html
footprint SQA48D (QFN, 48-Leads, Body 7x7mm, Pitch 0.5mm, Thermal Pad 4.2x4.2mm, NSC Recommended)
pins: 1 PREL_1 (in), 2 VCC (power), 3 SOB_0- (out), 4 SOB_0+ (out), 5 GND (power), 6 LI_0+ (in), 7 LI_0- (in), 8 VCC (power), 9 LO_1+ (out), 10 LO_1- (out), 11 GND (power), 12 PREL_0 (in), 13 MUX_S1 (in), 14 VCC (power), 15 SIA_1- (in), 16 SIA_1+ (in), 17 GND (power), 18 SIB_1- (in), 19 SIB_1+ (in), 20 VCC (power), 21 SOA_1- (out), 22 SOA_1+ (out), 23 LB1A (in), 24 LB1B (in), 25 PRES_1 (in), 26 RSV (in), 27 SOB_1- (out), 28 SOB_1+ (out), 29 VCC (power), 30 LI_1+ (in), 31 LI_1- (in), 32 GND (power), 33 LO_0+ (out), 34 LO_0- (out), 35 VCC (power), 36 PRES_0 (in), 37 MUX_S0 (in), 38 VCC (power), 39 SIA_0- (in), 40 SIA_0+ (in), 41 GND (power), 42 SIB_0- (in), 43 SIB_0+ (in), 44 VCC (power), 45 SOA_0- (out), 46 SOA_0+ (out), 47 LB0A (in), 48 LB0B (in), 49 GND (power)

## DS64EV400SQ/NOPB
designator U?
Programmable Quad Equalizer, 48-pin LLP, Pb-Free; PartNumber: DS64EV400SQ/NOPB; Manufacturer: National Semiconductor; PackageTopMarking: NS*UZXYTTE#*DS64EV400; PowerWise: Y; CompType: Interface IC; DatasheetVersion: Apr-2008; PackageVersion: revA, Jul-2004; PackageReference: SQA48D; PackageDescription: LLP, Quad, 7 x 7 x 0.8mm, 48 Lead, 0.5mm Pitch, 4.1 x 4.1 Exposed Pad; RoHS: Y; PinCount: 48; High-Reliability: Y; ComponentLink1Description: Manufacturer URL; ComponentLink1URL: http://www.national.com/; ComponentLink2Description: DS64EV400 Datasheet; ComponentLink2URL: http://www.national.com/ds/DS/DS64EV400.pdf; ComponentLink3Description: DS64EV400 Web Page; ComponentLink3URL: http://www.national.com/pf/DS/DS64EV400.html; ComponentLink4Description: SQA48D Package Page; ComponentLink4URL: http://www.national.com/packaging/folders/sqa48d.html
footprint SQA48D (QFN, 48-Leads, Body 7x7mm, Pitch 0.5mm, Thermal Pad 4.2x4.2mm, NSC Recommended)
pins: 1 PREL_1 (in), 2 VCC (power), 3 SOB_0- (out), 4 SOB_0+ (out), 5 GND (power), 6 LI_0+ (in), 7 LI_0- (in), 8 VCC (power), 9 LO_1+ (out), 10 LO_1- (out), 11 GND (power), 12 PREL_0 (in), 13 MUX_S1 (in), 14 VCC (power), 15 SIA_1- (in), 16 SIA_1+ (in), 17 GND (power), 18 SIB_1- (in), 19 SIB_1+ (in), 20 VCC (power), 21 SOA_1- (out), 22 SOA_1+ (out), 23 LB1A (in), 24 LB1B (in), 25 PRES_1 (in), 26 RSV (in), 27 SOB_1- (out), 28 SOB_1+ (out), 29 VCC (power), 30 LI_1+ (in), 31 LI_1- (in), 32 GND (power), 33 LO_0+ (out), 34 LO_0- (out), 35 VCC (power), 36 PRES_0 (in), 37 MUX_S0 (in), 38 VCC (power), 39 SIA_0- (in), 40 SIA_0+ (in), 41 GND (power), 42 SIB_0- (in), 43 SIB_0+ (in), 44 VCC (power), 45 SOA_0- (out), 46 SOA_0+ (out), 47 LB0A (in), 48 LB0B (in), 49 GND (power)

## DS64EV400SQX/NOPB
designator U?
Programmable Quad Equalizer, 48-pin LLP, Pb-Free; PartNumber: DS64EV400SQX/NOPB; Manufacturer: National Semiconductor; PackageTopMarking: NS*UZXYTTE#*DS64EV400; PowerWise: Y; CompType: Interface IC; DatasheetVersion: Apr-2008; PackageVersion: revA, Jul-2004; PackageReference: SQA48D; PackageDescription: LLP, Quad, 7 x 7 x 0.8mm, 48 Lead, 0.5mm Pitch, 4.1 x 4.1 Exposed Pad; RoHS: Y; PinCount: 48; High-Reliability: Y; ComponentLink1Description: Manufacturer URL; ComponentLink1URL: http://www.national.com/; ComponentLink2Description: DS64EV400 Datasheet; ComponentLink2URL: http://www.national.com/ds/DS/DS64EV400.pdf; ComponentLink3Description: DS64EV400 Web Page; ComponentLink3URL: http://www.national.com/pf/DS/DS64EV400.html; ComponentLink4Description: SQA48D Package Page; ComponentLink4URL: http://www.national.com/packaging/folders/sqa48d.html
footprint SQA48D (QFN, 48-Leads, Body 7x7mm, Pitch 0.5mm, Thermal Pad 4.2x4.2mm, NSC Recommended)
pins: 1 PREL_1 (in), 2 VCC (power), 3 SOB_0- (out), 4 SOB_0+ (out), 5 GND (power), 6 LI_0+ (in), 7 LI_0- (in), 8 VCC (power), 9 LO_1+ (out), 10 LO_1- (out), 11 GND (power), 12 PREL_0 (in), 13 MUX_S1 (in), 14 VCC (power), 15 SIA_1- (in), 16 SIA_1+ (in), 17 GND (power), 18 SIB_1- (in), 19 SIB_1+ (in), 20 VCC (power), 21 SOA_1- (out), 22 SOA_1+ (out), 23 LB1A (in), 24 LB1B (in), 25 PRES_1 (in), 26 RSV (in), 27 SOB_1- (out), 28 SOB_1+ (out), 29 VCC (power), 30 LI_1+ (in), 31 LI_1- (in), 32 GND (power), 33 LO_0+ (out), 34 LO_0- (out), 35 VCC (power), 36 PRES_0 (in), 37 MUX_S0 (in), 38 VCC (power), 39 SIA_0- (in), 40 SIA_0+ (in), 41 GND (power), 42 SIB_0- (in), 43 SIB_0+ (in), 44 VCC (power), 45 SOA_0- (out), 46 SOA_0+ (out), 47 LB0A (in), 48 LB0B (in), 49 GND (power)

## DS64MB201SQ/NOPB
designator U?
Dual Port 2:1/1:2 Mux/Buffer with Equalization and De-Emphasis, 54-pin LLP, 2000 Reel; PartNumber: DS64MB201SQ/NOPB; Manufacturer: National Semiconductor; PackageTopMarking: NS*UZXYTTE#*DS64MB201*SQ; PowerWise: Y; CompType: Interface IC; DatasheetVersion: Mar-2011; PackageVersion: revB, Jun-2009; PackageReference: SQA54A; PackageDescription: LLP, Plastic, Quad, 10 x 10 x 0.8 mm Body, 54 Lead, 0.5 mm Pitch (SQA54A); RoHS: Y; PinCount: 54; High-Reliability: Y; ComponentLink1Description: Manufacturer URL; ComponentLink1URL: http://www.national.com/; ComponentLink2Description: DS64MB201 Datasheet; ComponentLink2URL: http://www.national.com/ds/DS/DS64MB201.pdf; ComponentLink3Description: DS64MB201 Web Page; ComponentLink3URL: http://www.national.com/pf/DS/DS64MB201.html; ComponentLink4Description: SQA54A Package Page; ComponentLink4URL: http://www.national.com/packaging/folders/sqa54a.html
footprint SQA54A (PQFN, 54-Leads, (18x9 pads), Body 10x10mm, Pitch 0.5mm, NSC Recommended)
pins: 1 NC, 2 NC, 3 DOUT0+ (out), 4 DOUT0- (out), 5 NC, 6 NC, 7 DOUT1+ (out), 8 DOUT1- (out), 9 VDD (power), 10 DIN0+ (in), 11 DIN0- (in), 12 NC, 13 NC, 14 VDD (power), 15 DIN1+ (in), 16 DIN1- (in), 17 NC, 18 NC, 19 SEL0 (in), 20 SEL1 (in), 21 RATE, 22 VOD0 (in), 23 VOD1 (in), 24 TXIDLEDO, 25 TXIDLESO, 26 FANOUT (in), 27 SD_TH (in), 28 SOB1- (out), 29 SOB1+ (out), 30 SOA1- (out), 31 SOA1+ (out), 32 SOB0- (out), 33 SOB0+ (out), 34 SOA0- (out), 35 SOA0+ (out), 36 VDD (power), 37 SIB1- (in), 38 SIB1+ (in), 39 SIA1- (in), 40 SIA1+ (in), 41 VDD (power), 42 SIB0- (in), 43 SIB0+ (in), 44 SIA0- (in), 45 SIA0+ (in), 46 EQA/AD3, 47 DEMA/AD2, 48 ENSMB (in), 49 EQB/SDA (io), 50 DEMB/SCL, 51 VDD (power), 52 GND (power), 53 EQD/AD1, 54 DEMD/ADO, 55 DAP (power)

## DS64MB201SQE/NOPB
designator U?
Dual Port 2:1/1:2 Mux/Buffer with Equalization and De-Emphasis, 54-pin LLP, 250 Reel; PartNumber: DS64MB201SQE/NOPB; Manufacturer: National Semiconductor; PackageTopMarking: NS*UZXYTTE#*DS64MB201*SQ; PowerWise: Y; CompType: Interface IC; DatasheetVersion: Mar-2011; PackageVersion: revB, Jun-2009; PackageReference: SQA54A; PackageDescription: LLP, Plastic, Quad, 10 x 10 x 0.8 mm Body, 54 Lead, 0.5 mm Pitch (SQA54A); RoHS: Y; PinCount: 54; High-Reliability: Y; ComponentLink1Description: Manufacturer URL; ComponentLink1URL: http://www.national.com/; ComponentLink2Description: DS64MB201 Datasheet; ComponentLink2URL: http://www.national.com/ds/DS/DS64MB201.pdf; ComponentLink3Description: DS64MB201 Web Page; ComponentLink3URL: http://www.national.com/pf/DS/DS64MB201.html; ComponentLink4Description: SQA54A Package Page; ComponentLink4URL: http://www.national.com/packaging/folders/sqa54a.html
footprint SQA54A (PQFN, 54-Leads, (18x9 pads), Body 10x10mm, Pitch 0.5mm, NSC Recommended)
pins: 1 NC, 2 NC, 3 DOUT0+ (out), 4 DOUT0- (out), 5 NC, 6 NC, 7 DOUT1+ (out), 8 DOUT1- (out), 9 VDD (power), 10 DIN0+ (in), 11 DIN0- (in), 12 NC, 13 NC, 14 VDD (power), 15 DIN1+ (in), 16 DIN1- (in), 17 NC, 18 NC, 19 SEL0 (in), 20 SEL1 (in), 21 RATE, 22 VOD0 (in), 23 VOD1 (in), 24 TXIDLEDO, 25 TXIDLESO, 26 FANOUT (in), 27 SD_TH (in), 28 SOB1- (out), 29 SOB1+ (out), 30 SOA1- (out), 31 SOA1+ (out), 32 SOB0- (out), 33 SOB0+ (out), 34 SOA0- (out), 35 SOA0+ (out), 36 VDD (power), 37 SIB1- (in), 38 SIB1+ (in), 39 SIA1- (in), 40 SIA1+ (in), 41 VDD (power), 42 SIB0- (in), 43 SIB0+ (in), 44 SIA0- (in), 45 SIA0+ (in), 46 EQA/AD3, 47 DEMA/AD2, 48 ENSMB (in), 49 EQB/SDA (io), 50 DEMB/SCL, 51 VDD (power), 52 GND (power), 53 EQD/AD1, 54 DEMD/ADO, 55 DAP (power)

## DS78C20J/883
designator U?
Dual CMOS Compatible Differential Line Receiver, 14-pin CerDIP; PartNumber: DS78C20J/883; Manufacturer: National Semiconductor; PackageTopMarking: NSZSSXXYYA*DS78C20J/883 Q*5962-9321101MCA; PowerWise: N; CompType: Interface IC; High-Reliability: Y; DatasheetVersion: May-1998; PackageVersion: revJ, Jul-2002; PackageReference: J14A; PackageDescription: Cerdip, .400 x .310in Body, 14 Lead, .300in Centers, .100in Pitch; RoHS: N; PinCount: 14; ComponentLink1Description: Manufacturer URL; ComponentLink1URL: http://www.national.com/; ComponentLink2Description: DS78C20 Datasheet; ComponentLink2URL: http://www.national.com/ds/DS/DS78C20.pdf; ComponentLink3Description: DS78C20 Web Page; ComponentLink3URL: http://www.national.com/pf/DS/DS78C20.html; ComponentLink4Description: J14A Package Page; ComponentLink4URL: http://www.national.com/packaging/folders/j14a.html
footprint J14A (DIP, 14-Leads, Row Spacing 7.62mm, Pitch 2.54mm, Body 19.56x6.73mm)
pins: 1 IN1- (in), 2 TERM1, 3 IN1+ (in), 4 STB1 (in), 5 RTC1 (in), 6 OUT1 (out), 7 GND (power), 8 OUT2 (out), 9 RTC2 (in), 10 STB2 (in), 11 IN2+ (in), 12 TERM2, 13 IN2- (in), 14 VCC (power)

## DS78LS120J/883
designator U?
Dual Differential Line Receiver (Noise Filtering and Fail-Safe), 16-pin CerDIP; PartNumber: DS78LS120J/883; Manufacturer: National Semiconductor; PackageTopMarking: NSZSSXXYYA*DS78LS120J/883 Q; PowerWise: N; CompType: Interface IC; High-Reliability: Y; DatasheetVersion: Sep-1999; PackageVersion: revL, Sep-1993; PackageReference: J16A; PackageDescription: Cerdip (J), 16 Lead; RoHS: N; PinCount: 16; ComponentLink1Description: Manufacturer URL; ComponentLink1URL: http://www.national.com/; ComponentLink2Description: DS78LS120 Datasheet; ComponentLink2URL: http://www.national.com/ds/DS/DS78LS120.pdf; ComponentLink3Description: DS78LS120 Web Page; ComponentLink3URL: http://www.national.com/pf/DS/DS78LS120.html; ComponentLink4Description: J16A Package Page; ComponentLink4URL: http://www.national.com/packaging/folders/j16a.html
footprint J16A (DIP, 16-Leads, Row Spacing 7.62mm, Pitch 2.54mm, Body 19.56x6.73mm)
pins: 1 FSO1 (in), 2 IN1- (in), 3 TERM1, 4 IN1+ (in), 5 STB1 (in), 6 RTC1 (in), 7 OUT1 (out), 8 GND (power), 9 OUT2 (out), 10 RTC2 (in), 11 STB2 (in), 12 IN2+ (in), 13 TERM2, 14 IN2- (in), 15 FSO2 (in), 16 VCC (power)

## DS80EP100SD
designator U?
5 to 12.5 Gbps, Power-Saver Equalizer for Backplanes and Cables, 6-pin LLP; PartNumber: DS80EP100SD; Manufacturer: National Semiconductor; PackageTopMarking: XTT*80S; PowerWise: Y; CompType: Interface IC; DatasheetVersion: May-2008; PackageVersion: revA, Nov-2003; PackageReference: SDB06A; PackageDescription: LLP, Plastic, Dual, 2.2 x 2.5 x 0.8mm Body, 6 Lead, 0.65mm Pitch, No Pullback; RoHS: Y; PinCount: 6; High-Reliability: Y; ComponentLink1Description: Manufacturer URL; ComponentLink1URL: http://www.national.com/; ComponentLink2Description: DS80EP100 Datasheet; ComponentLink2URL: http://www.national.com/ds/DS/DS80EP100.pdf; ComponentLink3Description: DS80EP100 Web Page; ComponentLink3URL: http://www.national.com/pf/DS/DS80EP100.html; ComponentLink4Description: SDB06A Package Page; ComponentLink4URL: http://www.national.com/packaging/folders/sdb06a.html
footprint SDB06A (SON, 6-Leads, Body 2.2x2.5mm, Pitch 0.65mm, NSC Recommended (SC-70 Land))
pins: 1 IOA+ (io), 2 NC, 3 IOA- (io), 4 IOB- (io), 5 NC, 6 IOB+ (io), 7 NC

## DS80EP100SD/NOPB
designator U?
5 to 12.5 Gbps, Power-Saver Equalizer for Backplanes and Cables, 6-pin LLP, Pb-Free; PartNumber: DS80EP100SD/NOPB; Manufacturer: National Semiconductor; PackageTopMarking: XTT*80S; PowerWise: Y; CompType: Interface IC; DatasheetVersion: May-2008; PackageVersion: revA, Nov-2003; PackageReference: SDB06A; PackageDescription: LLP, Plastic, Dual, 2.2 x 2.5 x 0.8mm Body, 6 Lead, 0.65mm Pitch, No Pullback; RoHS: Y; PinCount: 6; High-Reliability: Y; ComponentLink1Description: Manufacturer URL; ComponentLink1URL: http://www.national.com/; ComponentLink2Description: DS80EP100 Datasheet; ComponentLink2URL: http://www.national.com/ds/DS/DS80EP100.pdf; ComponentLink3Description: DS80EP100 Web Page; ComponentLink3URL: http://www.national.com/pf/DS/DS80EP100.html; ComponentLink4Description: SDB06A Package Page; ComponentLink4URL: http://www.national.com/packaging/folders/sdb06a.html
footprint SDB06A (SON, 6-Leads, Body 2.2x2.5mm, Pitch 0.65mm, NSC Recommended (SC-70 Land))
pins: 1 IOA+ (io), 2 NC, 3 IOA- (io), 4 IOB- (io), 5 NC, 6 IOB+ (io), 7 NC

## DS80EP100SDX/NOPB
designator U?
5 to 12.5 Gbps, Power-Saver Equalizer for Backplanes and Cables, 6-pin LLP, Pb-Free; PartNumber: DS80EP100SDX/NOPB; Manufacturer: National Semiconductor; PackageTopMarking: XTT*80S; PowerWise: Y; CompType: Interface IC; DatasheetVersion: May-2008; PackageVersion: revA, Nov-2003; PackageReference: SDB06A; PackageDescription: LLP, Plastic, Dual, 2.2 x 2.5 x 0.8mm Body, 6 Lead, 0.65mm Pitch, No Pullback; RoHS: Y; PinCount: 6; High-Reliability: Y; ComponentLink1Description: Manufacturer URL; ComponentLink1URL: http://www.national.com/; ComponentLink2Description: DS80EP100 Datasheet; ComponentLink2URL: http://www.national.com/ds/DS/DS80EP100.pdf; ComponentLink3Description: DS80EP100 Web Page; ComponentLink3URL: http://www.national.com/pf/DS/DS80EP100.html; ComponentLink4Description: SDB06A Package Page; ComponentLink4URL: http://www.national.com/packaging/folders/sdb06a.html
footprint SDB06A (SON, 6-Leads, Body 2.2x2.5mm, Pitch 0.65mm, NSC Recommended (SC-70 Land))
pins: 1 IOA+ (io), 2 NC, 3 IOA- (io), 4 IOB- (io), 5 NC, 6 IOB+ (io), 7 NC

## DS89C21TM
designator U?
Differential CMOS Line Driver and Receiver Pair, 8-pin Narrow SOIC; PartNumber: DS89C21TM; Manufacturer: National Semiconductor; PackageTopMarking: NSZXTT*DS89C*21TM; PowerWise: N; CompType: Interface IC; High-Reliability: Y; DatasheetVersion: Jun-1998; PackageVersion: revM, May-2009; PackageReference: M08A; PackageDescription: SOIC Narrow, 4.9 x 3.9 x 1.45mm, 8 Lead, 1.27mm Pitch; RoHS: N; PinCount: 8; Code_JEDEC: MS-012-AA; Code_IPC: SOIC127P600-8; ComponentLink1Description: Manufacturer URL; ComponentLink1URL: http://www.national.com/; ComponentLink2Description: DS89C21 Datasheet; ComponentLink2URL: http://www.national.com/ds/DS/DS89C21.pdf; ComponentLink3Description: DS89C21 Web Page; ComponentLink3URL: http://www.national.com/pf/DS/DS89C21.html; ComponentLink4Description: M08A Package Page; ComponentLink4URL: http://www.national.com/packaging/folders/m08a.html
footprint M08A_N (SOIC, 8-Leads, Body 4.9x3.9mm, Pitch 1.27mm, IPC Medium Density)
footprint M08A_L (SOIC, 8-Leads, Body 4.9x3.9mm, Pitch 1.27mm, IPC High Density)
footprint M08A_M (SOIC, 8-Leads, Body 4.9x3.9mm, Pitch 1.27mm, IPC Low Density)
pins: 1 VCC (power), 2 RO (out), 3 DI (in), 4 GND (power), 5 DO- (out), 6 DO+ (out), 7 RI- (in), 8 RI+ (in)

## DS89C21TM/NOPB
designator U?
Differential CMOS Line Driver and Receiver Pair, 8-pin Narrow SOIC, Pb-Free; PartNumber: DS89C21TM/NOPB; Manufacturer: National Semiconductor; PackageTopMarking: NSZXTT*DS89C*21TM; PowerWise: N; CompType: Interface IC; High-Reliability: Y; DatasheetVersion: Jun-1998; PackageVersion: revM, May-2009; PackageReference: M08A; PackageDescription: SOIC Narrow, 4.9 x 3.9 x 1.45mm, 8 Lead, 1.27mm Pitch; RoHS: Y; PinCount: 8; Code_JEDEC: MS-012-AA; Code_IPC: SOIC127P600-8; ComponentLink1Description: Manufacturer URL; ComponentLink1URL: http://www.national.com/; ComponentLink2Description: DS89C21 Datasheet; ComponentLink2URL: http://www.national.com/ds/DS/DS89C21.pdf; ComponentLink3Description: DS89C21 Web Page; ComponentLink3URL: http://www.national.com/pf/DS/DS89C21.html; ComponentLink4Description: M08A Package Page; ComponentLink4URL: http://www.national.com/packaging/folders/m08a.html
footprint M08A_N (SOIC, 8-Leads, Body 4.9x3.9mm, Pitch 1.27mm, IPC Medium Density)
footprint M08A_L (SOIC, 8-Leads, Body 4.9x3.9mm, Pitch 1.27mm, IPC High Density)
footprint M08A_M (SOIC, 8-Leads, Body 4.9x3.9mm, Pitch 1.27mm, IPC Low Density)
pins: 1 VCC (power), 2 RO (out), 3 DI (in), 4 GND (power), 5 DO- (out), 6 DO+ (out), 7 RI- (in), 8 RI+ (in)

## DS89C21TMX
designator U?
Differential CMOS Line Driver and Receiver Pair, 8-pin Narrow SOIC; PartNumber: DS89C21TMX; Manufacturer: National Semiconductor; PackageTopMarking: NSZXTT*DS89C*21TM; PowerWise: N; CompType: Interface IC; High-Reliability: Y; DatasheetVersion: Jun-1998; PackageVersion: revM, May-2009; PackageReference: M08A; PackageDescription: SOIC Narrow, 4.9 x 3.9 x 1.45mm, 8 Lead, 1.27mm Pitch; RoHS: N; PinCount: 8; Code_JEDEC: MS-012-AA; Code_IPC: SOIC127P600-8; ComponentLink1Description: Manufacturer URL; ComponentLink1URL: http://www.national.com/; ComponentLink2Description: DS89C21 Datasheet; ComponentLink2URL: http://www.national.com/ds/DS/DS89C21.pdf; ComponentLink3Description: DS89C21 Web Page; ComponentLink3URL: http://www.national.com/pf/DS/DS89C21.html; ComponentLink4Description: M08A Package Page; ComponentLink4URL: http://www.national.com/packaging/folders/m08a.html
footprint M08A_N (SOIC, 8-Leads, Body 4.9x3.9mm, Pitch 1.27mm, IPC Medium Density)
footprint M08A_L (SOIC, 8-Leads, Body 4.9x3.9mm, Pitch 1.27mm, IPC High Density)
footprint M08A_M (SOIC, 8-Leads, Body 4.9x3.9mm, Pitch 1.27mm, IPC Low Density)
pins: 1 VCC (power), 2 RO (out), 3 DI (in), 4 GND (power), 5 DO- (out), 6 DO+ (out), 7 RI- (in), 8 RI+ (in)

## DS89C386TMEA
designator U?
Twelve Channel CMOS Differential Line Receiver, 48-pin SSOP; PartNumber: DS89C386TMEA; Manufacturer: National Semiconductor; PackageTopMarking: NSUZXYTTE#*DS89C386T*MEA; PowerWise: N; CompType: Interface IC; High-Reliability: Y; DatasheetVersion: Oct-2001; PackageVersion: revF, Sep-2005; PackageReference: MS48A; PackageDescription: SSOP, .295 x .625 x .09in Body, 48 Lead, .025in Pitch; RoHS: N; PinCount: 48; Code_IPC: SOP635P1035-48; ComponentLink1Description: Manufacturer URL; ComponentLink1URL: http://www.national.com/; ComponentLink2Description: DS89C386 Datasheet; ComponentLink2URL: http://www.national.com/ds/DS/DS89C386.pdf; ComponentLink3Description: DS89C386 Web Page; ComponentLink3URL: http://www.national.com/pf/DS/DS89C386.html; ComponentLink4Description: MS48A Package Page; ComponentLink4URL: http://www.national.com/packaging/folders/ms48a.html
footprint MS48A_N (SOP, 48-Leads, Body 15.9x7.5mm, Pitch 0.635mm, IPC Medium Density)
footprint MS48A_L (SOP, 48-Leads, Body 15.9x7.5mm, Pitch 0.635mm, IPC High Density)
footprint MS48A_M (SOP, 48-Leads, Body 15.9x7.5mm, Pitch 0.635mm, IPC Low Density)
part A pins: 2 RO (hiz), 3 EN (in), 4 RO (hiz), 5 RI+ (in), 6 RI- (in), 46 RI- (in), 47 RI+ (in)
part B pins: 7 RI- (in), 8 RI+ (in), 41 RO (hiz), 42 EN (in), 43 RO (hiz), 44 RI+ (in), 45 RI- (in)
part C pins: 9 RO (hiz), 10 EN (in), 11 RO (hiz), 12 RI+ (in), 13 RI- (in), 39 RI- (in), 40 RI+ (in)
part D pins: 15 RI- (in), 16 RI+ (in), 33 RO (hiz), 34 EN (in), 35 RO (hiz), 36 RI+ (in), 37 RI- (in)
part E pins: 17 RO (hiz), 18 EN (in), 19 RO (hiz), 20 RI+ (in), 21 RI- (in), 31 RI- (in), 32 RI+ (in)
part F pins: 22 RI- (in), 23 RI+ (in), 26 RO (hiz), 27 EN (in), 28 RO (hiz), 29 RI+ (in), 30 RI- (in)
part G pins: 1 NC, 14 GND (power), 24 GND (power), 25 NC, 38 VCC (power), 48 NC
part A text: A; C
part B text: B; D
part C text: E; G
part D text: F; H
part E text: I; K
part F text: J; L